# Altium footprint library SG__PCB_Unsorted.PcbLib: 113 footprints (part 1 of 8)
Each footprint in its own frame and in the unit in brackets; x right, y up, seen from the top. Pads: shape width x height; smd on the part's side, far side on the other; paste and mask are expansions set on the pad; w line width, h text height; cw(c..) or ccw(c..) is an arc to the next point about the centre after c.
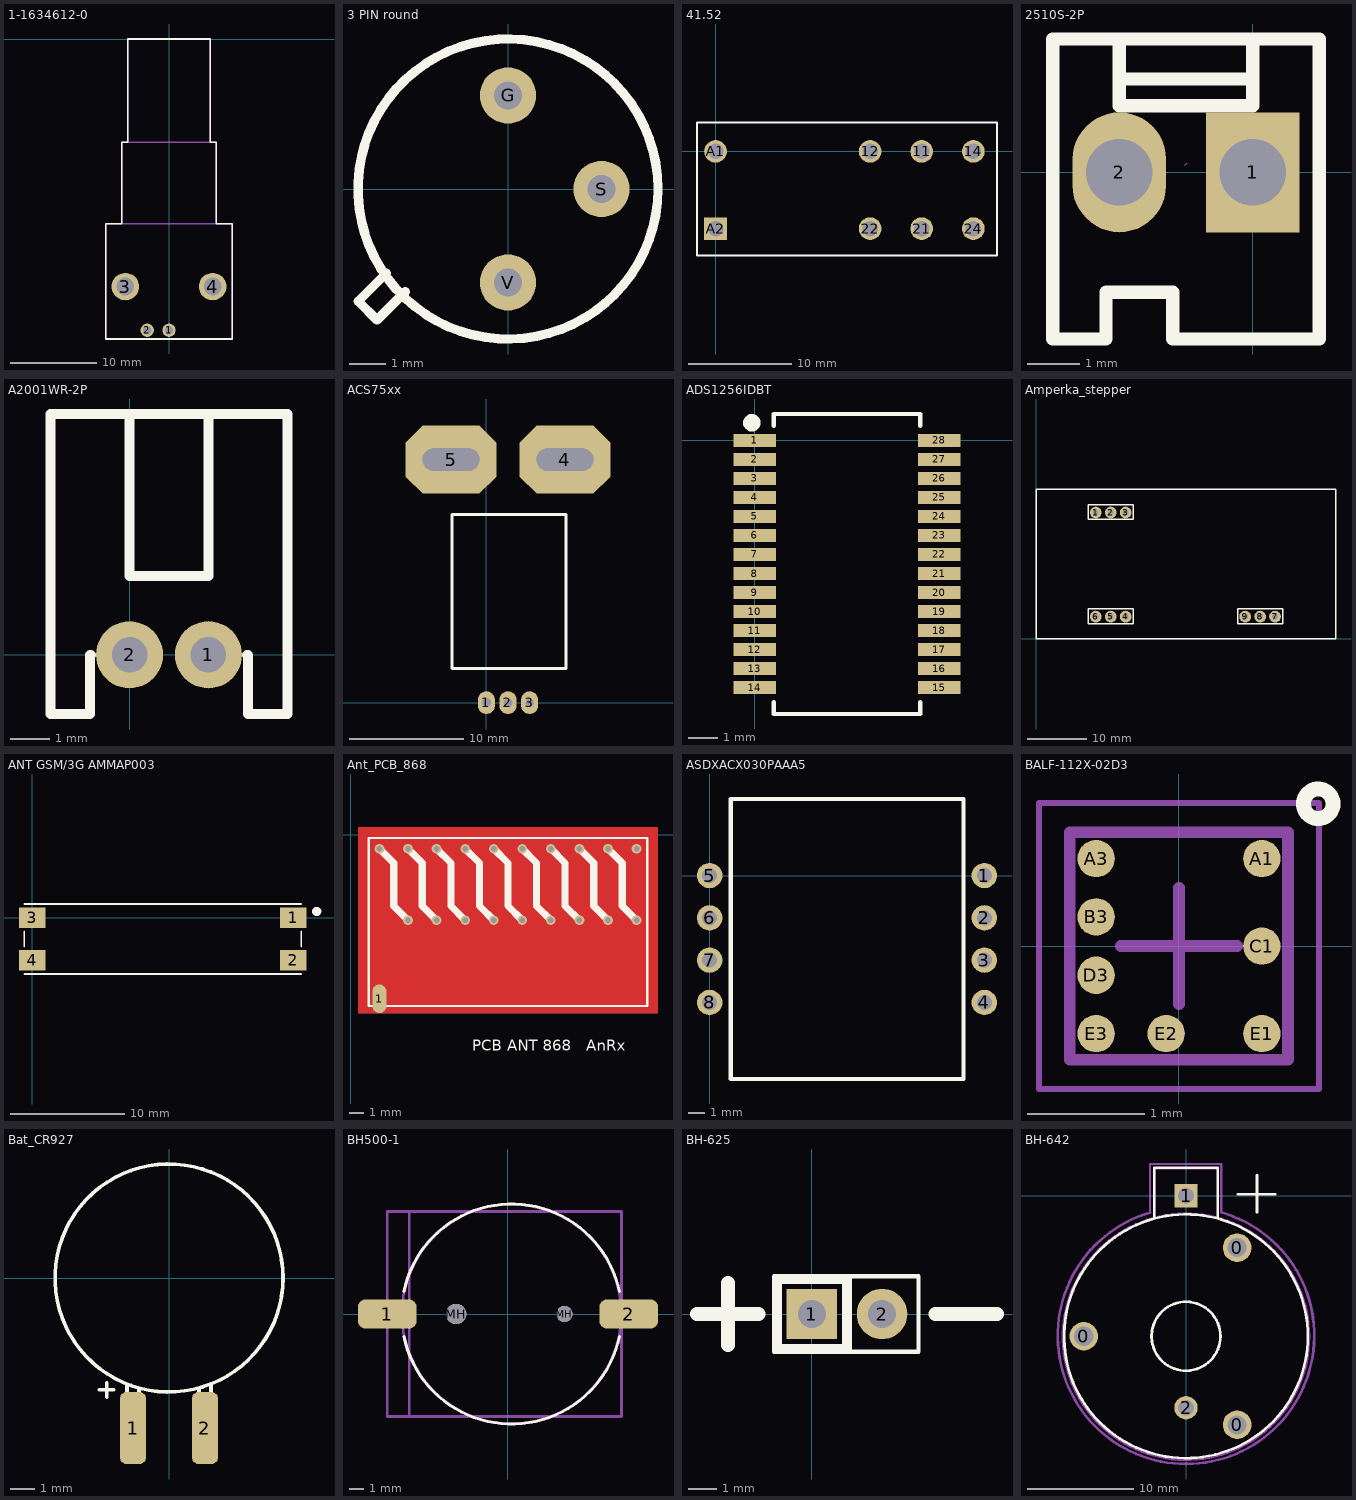
[diagram p0: the footprints below, top view; thin cyan lines are the x and y axes]

## 1-1634612-0 [mm] "bnc connector как на ADC_STM"
pads (4):
  round 1.55 hole 0.97: 1(0,-33.878) 2(-2.54,-33.878)
  round 3.2 hole 2.06: 3(-5.08,-28.798) 4(5.08,-28.798)
Top Overlay:
  lines w0.2: -7.35,-34.9 7.35,-34.9 7.35,-21.498 5.5,-21.498 5.5,-12 4.8,-12 4.8,0 -4.8,0 -4.8,-12 -5.5,-12 -5.5,-21.498 -7.35,-21.498 -7.35,-34.9
Mechanical 13:
  lines w0.2: -5.5,-21.498 -5.5,-12 5.5,-12 5.5,-21.498 ; -4.8,-12 -4.8,0 4.8,0 4.8,-12 ; -7.35,-34.9 -7.35,-21.498 7.35,-21.498 7.35,-34.9 -7.35,-34.9
3D body "1-1634612-0.stp": height 5, standoff -15.2, extent -7.35,-35.814 7.35,-0.314

## 3 PIN round [mil]
pads (3):
  round 60 hole 30: G(0,100) S(100,0) V(0,-100)
Top Overlay:
  circle w10: c0,0 r160.31
  lines w10: -130,-90 -160,-120 -140,-140 -110,-110
3D body "IRA-E710.stp": height 578.74, standoff -39.37, extent -281.26,-281.29 256.11,256.09

## 41.52 [mm] "relay"
height 15
pads (8):
  round 2.2 hole 1.5 mask+0.05: 11(20,0) 12(15,0) 14(25,0) 21(20,-7.5) 22(15,-7.5) 24(25,-7.5) A1(0,0)
  rect 2.2x2.2 hole 1.5 mask+0.05: A2(0,-7.5)
Top Overlay:
  lines w0.15: -1.8,-10.1 -1.8,2.8 27.3,2.8 27.3,-10.1 -1.8,-10.1
3D body: height 15.6, standoff 0, extent -1.8,-10.08 27.3,2.8

## 2510S-2P [mil] "Вафли с защелкой"
height 452.76
pads (2):
  rect 70x90 hole 50: 1(0,0)
  oval 70x89.97 hole 50: 2(-100,0)
Top Overlay:
  lines w10: -100,70 0,70 ; -100,100 -100,50 0,50 0,100 ; -150,-125 -110,-125 -110,-90 -60,-90 -59.9,-125 50,-125 50,100 -150,100 -150,-125
Mechanical 15:
  lines w0.1: -51,5.25 -49,7.25

## A2001WR-2P [mm] "PH Header Male Pin 2.00mm 2 Through Hole"
height 4.85
pads (2):
  round 1.7 hole 0.9: 1(2,0) 2(0,0)
Top Overlay:
  lines w0.254: -2.001,-1.501 -2.001,6.101 3.999,6.101 ; -2,-1.5 -1,-1.5 -1,0 -0.981,0 ; 0,2 2,2 ; 0.001,1.999 0.001,6 ; 2,1.999 2,6 ; 2.981,0 3,0 3,-1.5 4,-1.5 4,6.1

## ACS75xx [mm]
pads (5):
  oval 1.5x2 hole 0.8: 1(0,0)
  oval 1.5x2 hole 0.762: 2(1.9,0) 3(3.8,0)
  oct 8x6 hole 2 slot 5 at 0 deg: 4(6.9,21.336) 5(-3.1,21.336)
Top Overlay:
  lines w0.254: 5,21.336 5,21.4
  lines w0.256: -3,3 7,3 7,16.5 -3,16.5 -3,3
3D body "ACS758.step": height 7.1, standoff -3.52, extent -5,-0.554 9,22.2

## ADS1256IDBT [mm]
pads (28):
  rect 1.45x0.45 smd mask+0.05: 1(0,0) 2(0,-0.65) 3(0,-1.3) 4(0,-1.95) 5(0,-2.6) 6(0,-3.25) 7(0,-3.9) 8(0,-4.55) 9(0,-5.2) 10(0,-5.85) 11(0,-6.5) 12(0,-7.15) 13(0,-7.8) 14(0,-8.45) 15(6.3,-8.45) 16(6.3,-7.8) 17(6.3,-7.15) 18(6.3,-6.5) 19(6.3,-5.85) 20(6.3,-5.2) 21(6.3,-4.55) 22(6.3,-3.9) 23(6.3,-3.25) 24(6.3,-2.6) 25(6.3,-1.95) 26(6.3,-1.3) 27(6.3,-0.65) 28(6.3,0)
Top Overlay:
  circle w0.3: c-0.1,0.6 r0.15
  lines w0.15: 0.65,-8.95 0.65,-9.35 5.65,-9.35 5.65,-8.95 ; 0.65,0.5 0.65,0.9 5.65,0.9 5.65,0.5

## Amperka_stepper [mm]
pads (9):
  round 2 hole 1: 1(10.16,21.5) 2(12.7,21.5) 3(15.24,21.5) 4(15.24,3.81) 5(12.7,3.81) 6(10.16,3.81) 7(40.64,3.81) 8(38.1,3.81) 9(35.56,3.81)
Top Overlay:
  lines w0.254: 0,0 0,25.5 51,25.5 51,0 0,0 ; 8.89,2.63 8.89,5.17 16.51,5.17 16.51,2.63 8.89,2.63 ; 8.89,20.32 16.51,20.32 16.51,22.86 8.89,22.86 8.89,20.32 ; 34.29,2.63 41.91,2.63 41.91,5.17 34.29,5.17 34.29,2.63
3D body "amperka_stepper.STEP": height 13, standoff -2, extent 0.154,-0.254 51.154,25.246

## ANT GSM/3G AMMAP003 [mm]
height 4.4
pads (4):
  rect 2.3x1.8 smd mask+0.05: 1(22.7,0) 2(22.7,-3.7) 3(0,0) 4(0,-3.7)
Top Overlay:
  circle w0.4: c24.75,0.55 r0.2
  lines w0.15: -0.7,-4.9 23.4,-4.9 ; -0.7,-2.5 -0.7,-1.2 ; -0.7,1.2 23.4,1.2 ; 23.4,-2.5 23.4,-1.2

## Ant_PCB_868 [mm]
pads (1):
  oval 1x2 smd paste-1 mask-0.05: 1(2,-11.5)
via 2,-1 diameter 0.68 hole 0.38
via 4,-6 diameter 0.68 hole 0.38
via 4,-1 diameter 0.68 hole 0.38
via 6,-1 diameter 0.68 hole 0.38
via 6,-6 diameter 0.68 hole 0.38
via 8,-6 diameter 0.68 hole 0.38
via 8,-1 diameter 0.68 hole 0.38
via 10,-1 diameter 0.68 hole 0.38
via 10,-6 diameter 0.68 hole 0.38
via 12,-6 diameter 0.68 hole 0.38
via 12,-1 diameter 0.68 hole 0.38
via 14,-6 diameter 0.68 hole 0.38
via 14,-1 diameter 0.68 hole 0.38
via 16,-1 diameter 0.68 hole 0.38
via 16,-6 diameter 0.68 hole 0.38
via 18,-6 diameter 0.68 hole 0.38
via 18,-1 diameter 0.68 hole 0.38
via 20,-1 diameter 0.68 hole 0.38
via 20,-6 diameter 0.68 hole 0.38
Top Layer:
  pour cut-out: 0.5,-12.5 21.5,-12.5 21.5,0.5 0.5,0.5
  lines w1: 2,-12 2,-1 ; 4,-6 4,-1 ; 6,-6 6,-1 ; 8,-6 8,-1 ; 10,-6 10,-1 ; 12,-6 12,-1 ; 14,-6 14,-1 ; 16,-6 16,-1 ; 18,-6 18,-1 ; 20,-6 20,-1
Bottom Layer:
  pour cut-out: 0.5,-12.5 21.5,-12.5 21.5,0.5 0.5,0.5
  lines w1: 4,-6 3,-5 3,-2 2,-1 ; 4,-1 5,-2 5,-4.5 5,-5 6,-6 ; 6,-1 7,-2 7,-5 ; 8,-6 7,-5 ; 8,-1 9,-2 9,-5 10,-6 ; 10,-1 11,-2 11,-5 ; 12,-6 11,-5 ; 12,-1 13,-2 13,-5 14,-6 ; 14,-1 15,-2 15,-5 16,-6 ; 18,-6 17,-5 17,-2 16,-1 ; 18,-1 19,-2 19,-5 20,-6 ; 2,-1 2,-1 ; 7,-5 7,-5 ; 11,-5 11,-5 ; 16,-1 16,-1
Top Overlay:
  lines w0.152: 1.25,-12 1.25,-0.25 20.75,-0.25 20.75,-12 1.25,-12
  lines w0.5: 2,-1 3,-2 3,-5 4,-6 ; 4,-1 5,-2 5,-5 6,-6 ; 6,-1 7,-2 7,-5 8,-6 ; 8,-1 9,-2 9,-5 10,-6 ; 10,-1 11,-2 11,-5 12,-6 ; 12,-1 13,-2 13,-5 14,-6 ; 14,-1 15,-2 15,-5 16,-6 ; 16,-1 17,-2 17,-5 18,-6 ; 18,-1 19,-2 19,-5 20,-6
  text "PCB ANT 868   AnRx" at 8.5,-15.129 h0.76
Bottom Overlay:
  lines w0.5: 4,-6 4,-1 ; 6,-6 6,-1 ; 8,-6 8,-1 ; 10,-6 10,-1 ; 12,-6 12,-1 ; 14,-6 14,-1 ; 16,-6 16,-1 ; 18,-6 18,-1 ; 20,-6 20,-1

## ASDXACX030PAAA5 [mil] "baro"
pads (8):
  round 60 hole 35.43: 1(649.21,0) 2(649.21,-100) 3(649.21,-200) 4(649.21,-300) 5(0,0) 6(0,-100) 7(0,-200) 8(0,-300)
Top Overlay:
  lines w10: 50,-480.91 600,-480.91 600,-150 600,180.91 50,180.91 50,-150 50,-480.91

## BALF-112X-02D3 [mm] "balun for CC112x"
height 0.63
pads (8):
  round 0.32 smd mask-0.05: A1(0.71,0.75) A3(-0.71,0.75) B3(-0.71,0.25) C1(0.71,0) D3(-0.71,-0.25) E1(0.71,-0.75) E2(-0.11,-0.75) E3(-0.71,-0.75)
Top Overlay:
  circle w0.127: c1.194,1.219 r0.127
Mechanical 16:
  lines w0.1: -0.935,-0.975 -0.935,0.975 0.935,0.975 0.935,-0.975 -0.935,-0.975
Mechanical 18:
  lines w0.05: -1.2,-1.225 -1.2,1.225 1.2,1.225 1.2,-1.225 -1.2,-1.225
  lines w0.1: -0.5,0 0.5,0 ; 0,-0.5 0,0.5
3D body: height 0.63, standoff 0.21, extent -0.935,-0.975 0.935,0.975

## Bat_CR927 [mm] "10.0 mAh, 9.5x2.7 mm"
pads (2):
  rrect50% 1.1x3 smd: 1(-1.5,-6.25) 2(1.5,-6.25)
Top Overlay:
  circle w0.152: c0,0 r4.75
  lines w0.152: -2.9,-4.658 -2.3,-4.658 ; -2.6,-4.958 -2.6,-4.358 ; -1.75,-6.2 -1.75,-4.458 ; -1.25,-6.2 -1.25,-4.608 ; 1.25,-6.2 1.25,-4.6 ; 1.75,-6.2 1.75,-4.45
3D body: height 3, standoff 0, extent -4.75,-4.747 4.75,4.747

## BH500-1 [mm] "battery holder"
height 6
pads (4):
  rrect50% 4x2 smd: 1(-8.25,0) 2(8.25,0)
  round 1.4 hole 1.4 unplated: MH(-3.55,0)
  round 1.1 hole 1.1 unplated: MH(3.85,0)
Top Overlay:
  lines w0.2: -7.116,-1.524 ccw(c0.25,0) 7.616,-1.524 ; -7.116,1.524 cw(c0.25,0) 7.616,1.524
Mechanical 13:
  circle w0.2: c0.25,0 r7.5
  lines w0.2: -8.25,-7 -6.75,-7 -6.75,0 -6.75,7 -8.25,7 -8.25,-7
Mechanical 15:
  lines w0.2: -8.25,-7 7.75,-7 7.75,7 -8.25,7 -8.25,-7
3D body: height 4, standoff 0, extent -8.25,-7.5 7.75,7.5

## BH-625 [mm]
pads (2):
  rect 1.8x1.8 hole 1 mask+0.05: 1(0,0)
  round 1.8 hole 1 mask+0.05: 2(2.5,0)
Top Overlay:
  lines w0.15: -1.35,-1.25 1.35,-1.25 ; -1.35,-1.15 1.35,-1.15 ; -1.35,1.15 1.35,1.15 ; -1.35,1.2 1.35,1.2 ; -1.25,-1.35 -1.25,1.35 ; -1.15,-1.35 -1.15,1.35 ; 1.15,-1.35 1.15,1.35 ; 1.2,-1.35 1.2,1.35 ; 1.35,-1.3 1.35,1.3 ; -1.35,-1.35 3.8,-1.35 3.8,1.35 -1.35,1.35 -1.35,-1.35
  lines w0.5: -4.1,0 -1.9,0 ; -3,-1.1 -3,1.1 ; 4.4,0 6.6,0

## BH-642 [mm]
height 6.75
pads (5):
  round 2.7 hole 1.8 mask+0.05: 0(-9.65,-13.25) 0(4.825,-4.893) 0(4.825,-21.607)
  rect 2.2x2.2 hole 1.5 mask+0.05: 1(0,0)
  round 2.2 hole 1.5 mask+0.05: 2(0,-20)
Top Overlay:
  circle w0.254: c0,-13.25 r3.25
  circle w0.25: c0,-13.25 r11.5
  lines w0.25: -3,-2.05 -3,2.65 3,2.65 3,-2.05 ; 4.9,0.15 8.4,0.15 ; 6.7,-1.55 6.7,1.95
Assembly Top:
  circle w0.254: c0,-13.3 r11.604
  lines w0.2: -3,-2.1 -3,2.6 3.035,2.6 3.035,-2.1
Courtyard Top:
  lines w0.2: -3.4,-1.551 -3.4,3 3.325,3 3.325,-1.562
  lines w0.254: -3.391,-1.582 ccw(c0,-13.2) 3.325,-1.562
3D body "BH-624.STEP": height 8.37, standoff -3.8, extent -11.5,-24.85 11.5,2.581